# Altium footprint library SOT95P280X100-5N.PcbLib: 1 footprints
Each footprint in its own frame and in the unit in brackets; x right, y up, seen from the top. Pads: shape width x height; smd on the part's side, far side on the other; paste and mask are expansions set on the pad; w line width, h text height; cw(c..) or ccw(c..) is an arc to the next point about the centre after c.
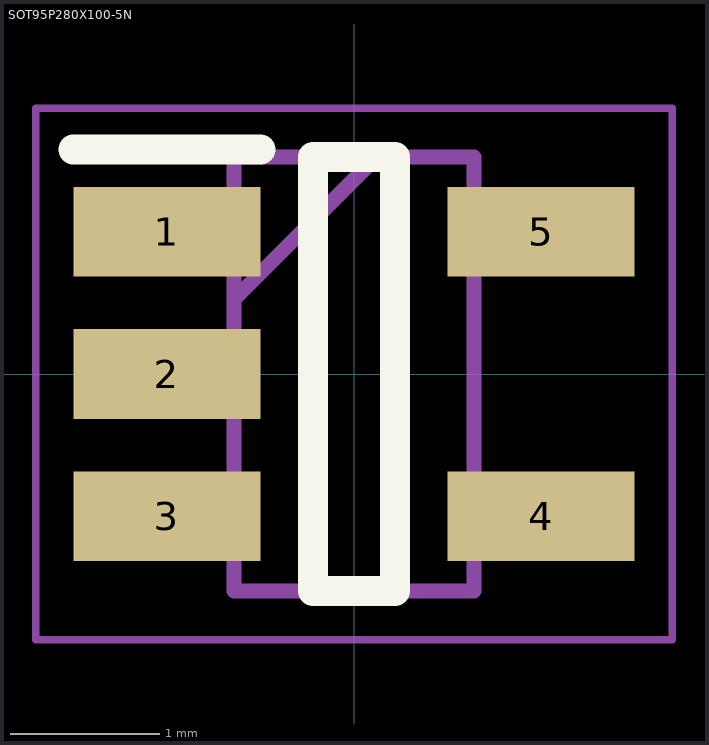
[diagram p0: the footprint, top view; thin cyan lines are the x and y axes]

## SOT95P280X100-5N [mm]
pads (5):
  rect 1.25x0.6 smd: 1(-1.25,0.95) 2(-1.25,0) 3(-1.25,-0.95) 4(1.25,-0.95) 5(1.25,0.95)
Top Overlay:
  lines w0.2: -1.875,1.5 -0.625,1.5 ; -0.275,-1.45 0.275,-1.45 0.275,1.45 -0.275,1.45 -0.275,-1.45
Mechanical 15:
  lines w0.1: -0.8,0.5 0.15,1.45 ; -0.8,-1.45 0.8,-1.45 0.8,1.45 -0.8,1.45 -0.8,-1.45
Mechanical 20:
  lines w0.05: -2.125,-1.775 2.125,-1.775 2.125,1.775 -2.125,1.775 -2.125,-1.775